# Altium schematic symbol library CMOZ3L3_TR_PBFREE.SchLib: 1 symbol
Pins are listed as number, name and electrical type; pins without a type are passive.

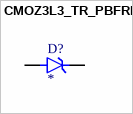
[diagram p0: symbol CMOZ3L3_TR_PBFREE]

## CMOZ3L3_TR_PBFREE
designator D?
MF: {'manufacturer': u'Central Semiconductor'}; MP: CMOZ3L3_TR_PBFREE; Package: None; Price: None; Value: *; Availability: Unavailable
footprint SODFL1608X80N
pins: 1 K, 2 A